# Altium footprint library PCB - PASSIVES - NTC 0201_0603.PcbLib: 1 footprints
Each footprint in its own frame and in the unit in brackets; x right, y up, seen from the top. Pads: shape width x height; smd on the part's side, far side on the other; paste and mask are expansions set on the pad; w line width, h text height; cw(c..) or ccw(c..) is an arc to the next point about the centre after c.
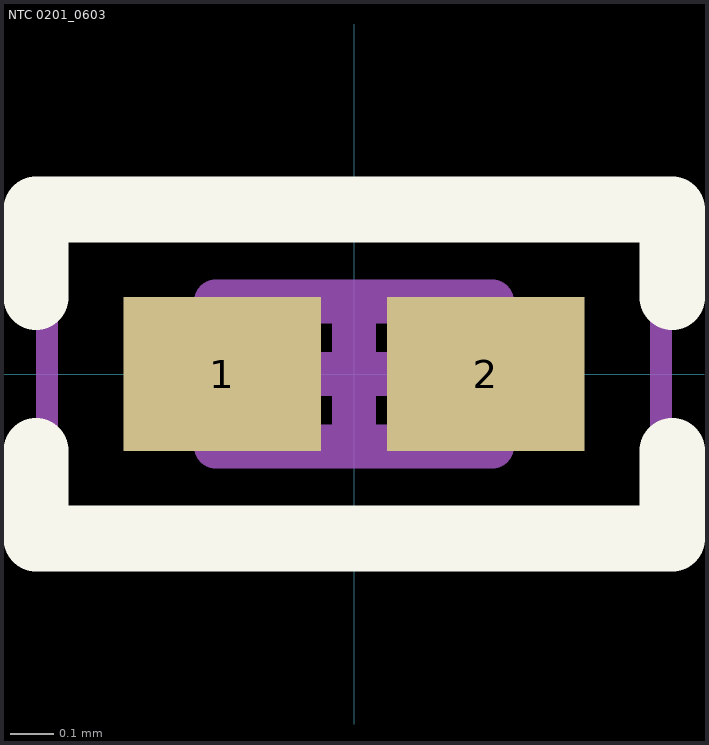
[diagram p0: the footprint, top view; thin cyan lines are the x and y axes]

## NTC 0201_0603 [mm] "Chip Thermisistor, 2-Leads, Body 0.60x0.30mm, IPC Medium Density"
height 0.33
pads (2):
  rect 0.45x0.35 smd: 1(-0.3,0) 2(0.3,0)
Top Overlay:
  lines w0.15: -0.725,-0.175 -0.725,-0.375 0.725,-0.375 0.725,-0.175 ; -0.725,0.175 -0.725,0.375 0.725,0.375 0.725,0.175
Mechanical 13:
  lines w0.1: -0.315,-0.165 0.315,-0.165 0.315,0.165 -0.315,0.165 -0.315,-0.165
Mechanical 15:
  lines w0.05: -0.7,-0.35 0.7,-0.35 0.7,0.35 -0.7,0.35 -0.7,-0.35
  lines w0.1: -0.165,0 0.165,0 ; 0,-0.165 0,0.165
3D body "NTC 0201.step": height 0.3, standoff 0, extent -0.3,-0.15 0.3,0.15